# Altium footprint library Connector_PinSocket_2.54mm.PcbLib: 278 footprints (part 5 of 18)
Each footprint in its own frame and in the unit in brackets; x right, y up, seen from the top. Pads: shape width x height; smd on the part's side, far side on the other; paste and mask are expansions set on the pad; w line width, h text height; cw(c..) or ccw(c..) is an arc to the next point about the centre after c.
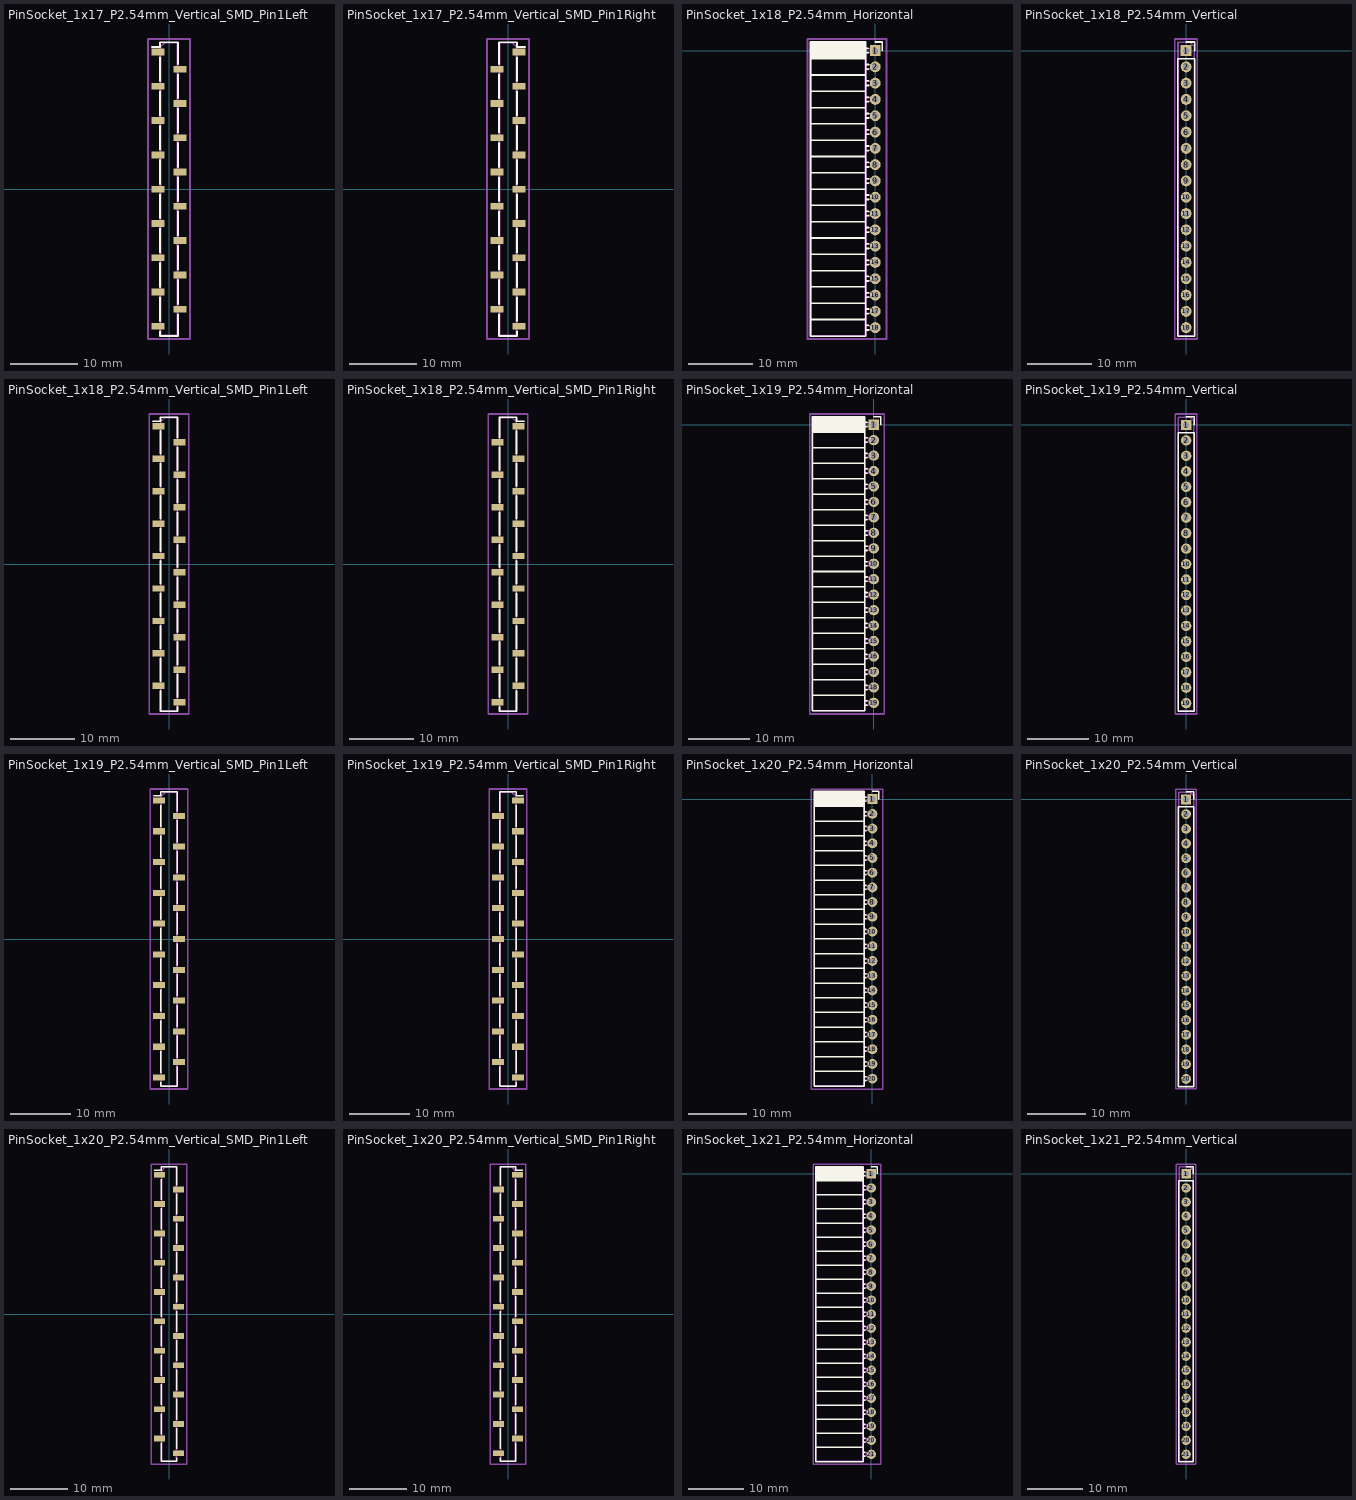
[diagram p4: the footprints below, top view; thin cyan lines are the x and y axes]

## PinSocket_1x17_P2.54mm_Vertical_SMD_Pin1Left [mm]
pads (17):
  rect 1.9x1 smd: 1(-1.65,20.32) 2(1.65,17.78) 3(-1.65,15.24) 4(1.65,12.7) 5(-1.65,10.16) 6(1.65,7.62) 7(-1.65,5.08) 8(1.65,2.54) 9(-1.65,0) 10(1.65,-2.54) 11(-1.65,-5.08) 12(1.65,-7.62) 13(-1.65,-10.16) 14(1.65,-12.7) 15(-1.65,-15.24) 16(1.65,-17.78) 17(-1.65,-20.32)
F.SilkS:
  lines w0.254: -2.54,21.08 -1.33,21.08 -1.33,21.75 1.33,21.75 1.33,18.54 ; -1.33,-21.08 -1.33,-21.75 1.33,-21.75 1.33,-18.54 ; -1.33,-19.56 -1.33,-16 ; -1.33,-14.48 -1.33,-10.92 ; -1.33,-9.4 -1.33,-5.84 ; -1.33,-4.32 -1.33,-0.76 ; -1.33,0.76 -1.33,4.32 ; -1.33,5.84 -1.33,9.4 ; -1.33,10.92 -1.33,14.48 ; -1.33,16 -1.33,19.56 ; 1.33,-17.02 1.33,-13.46 ; 1.33,-11.94 1.33,-8.38 ; 1.33,-6.86 1.33,-3.3 ; 1.33,-1.78 1.33,1.78 ; 1.33,3.3 1.33,6.86 ; 1.33,8.38 1.33,11.94 ; 1.33,13.46 1.33,17.02
Top Assembly:
  lines w0.254: -1.27,-20.62 -2.27,-20.62 -2.27,-20.02 -1.27,-20.02 ; -1.27,-15.54 -2.27,-15.54 -2.27,-14.94 -1.27,-14.94 ; -1.27,-10.46 -2.27,-10.46 -2.27,-9.86 -1.27,-9.86 ; -1.27,-5.38 -2.27,-5.38 -2.27,-4.78 -1.27,-4.78 ; -1.27,-0.3 -2.27,-0.3 -2.27,0.3 -1.27,0.3 ; -1.27,4.78 -2.27,4.78 -2.27,5.38 -1.27,5.38 ; -1.27,9.86 -2.27,9.86 -2.27,10.46 -1.27,10.46 ; -1.27,14.94 -2.27,14.94 -2.27,15.54 -1.27,15.54 ; -1.27,20.02 -2.27,20.02 -2.27,20.62 -1.27,20.62 ; 1.27,-18.08 2.27,-18.08 2.27,-17.48 1.27,-17.48 ; 1.27,-13 2.27,-13 2.27,-12.4 1.27,-12.4 ; 1.27,-7.92 2.27,-7.92 2.27,-7.32 1.27,-7.32 ; 1.27,-2.84 2.27,-2.84 2.27,-2.24 1.27,-2.24 ; 1.27,2.24 2.27,2.24 2.27,2.84 1.27,2.84 ; 1.27,7.32 2.27,7.32 2.27,7.92 1.27,7.92 ; 1.27,12.4 2.27,12.4 2.27,13 1.27,13 ; 1.27,17.48 2.27,17.48 2.27,18.08 1.27,18.08 ; -1.27,-21.69 1.27,-21.69 1.27,21.69 -0.635,21.69 -1.27,21.055 -1.27,-21.69
  text "'.Designator'" at 0.84,-4.047 h1
Top Courtyard:
  lines w0.254: -3.1,-22.2 3.1,-22.2 3.1,22.25 -3.1,22.25 -3.1,-22.2
Top Designator:
  text ".Designator" at -7.618,-0.483 h1.52

## PinSocket_1x17_P2.54mm_Vertical_SMD_Pin1Right [mm]
pads (17):
  rect 1.9x1 smd: 1(1.65,20.32) 2(-1.65,17.78) 3(1.65,15.24) 4(-1.65,12.7) 5(1.65,10.16) 6(-1.65,7.62) 7(1.65,5.08) 8(-1.65,2.54) 9(1.65,0) 10(-1.65,-2.54) 11(1.65,-5.08) 12(-1.65,-7.62) 13(1.65,-10.16) 14(-1.65,-12.7) 15(1.65,-15.24) 16(-1.65,-17.78) 17(1.65,-20.32)
F.SilkS:
  lines w0.254: -1.33,-18.54 -1.33,-21.75 1.33,-21.75 1.33,-21.08 ; -1.33,-17.02 -1.33,-13.46 ; -1.33,-11.94 -1.33,-8.38 ; -1.33,-6.86 -1.33,-3.3 ; -1.33,-1.78 -1.33,1.78 ; -1.33,3.3 -1.33,6.86 ; -1.33,8.38 -1.33,11.94 ; -1.33,13.46 -1.33,17.02 ; -1.33,18.54 -1.33,21.75 1.33,21.75 1.33,21.08 2.54,21.08 ; 1.33,-19.56 1.33,-16 ; 1.33,-14.48 1.33,-10.92 ; 1.33,-9.4 1.33,-5.84 ; 1.33,-4.32 1.33,-0.76 ; 1.33,0.76 1.33,4.32 ; 1.33,5.84 1.33,9.4 ; 1.33,10.92 1.33,14.48 ; 1.33,16 1.33,19.56
Top Assembly:
  lines w0.254: -1.27,-18.08 -2.27,-18.08 -2.27,-17.48 -1.27,-17.48 ; -1.27,-13 -2.27,-13 -2.27,-12.4 -1.27,-12.4 ; -1.27,-7.92 -2.27,-7.92 -2.27,-7.32 -1.27,-7.32 ; -1.27,-2.84 -2.27,-2.84 -2.27,-2.24 -1.27,-2.24 ; -1.27,2.24 -2.27,2.24 -2.27,2.84 -1.27,2.84 ; -1.27,7.32 -2.27,7.32 -2.27,7.92 -1.27,7.92 ; -1.27,12.4 -2.27,12.4 -2.27,13 -1.27,13 ; -1.27,17.48 -2.27,17.48 -2.27,18.08 -1.27,18.08 ; 1.27,-20.62 2.27,-20.62 2.27,-20.02 1.27,-20.02 ; 1.27,-15.54 2.27,-15.54 2.27,-14.94 1.27,-14.94 ; 1.27,-10.46 2.27,-10.46 2.27,-9.86 1.27,-9.86 ; 1.27,-5.38 2.27,-5.38 2.27,-4.78 1.27,-4.78 ; 1.27,-0.3 2.27,-0.3 2.27,0.3 1.27,0.3 ; 1.27,4.78 2.27,4.78 2.27,5.38 1.27,5.38 ; 1.27,9.86 2.27,9.86 2.27,10.46 1.27,10.46 ; 1.27,14.94 2.27,14.94 2.27,15.54 1.27,15.54 ; 1.27,20.02 2.27,20.02 2.27,20.62 1.27,20.62 ; -1.27,-21.69 1.27,-21.69 1.27,21.055 0.635,21.69 -1.27,21.69 -1.27,-21.69
  text "'.Designator'" at 0.84,-4.047 h1
Top Courtyard:
  lines w0.254: -3.1,-22.2 3.1,-22.2 3.1,22.25 -3.1,22.25 -3.1,-22.2
Top Designator:
  text ".Designator" at -7.618,-0.483 h1.52

## PinSocket_1x18_P2.54mm_Horizontal [mm]
pads (18):
  rect 1.7x1.7 hole 1: 1(0,0)
  round 1.7 hole 1: 2(0,-2.54) 3(0,-5.08) 4(0,-7.62) 5(0,-10.16) 6(0,-12.7) 7(0,-15.24) 8(0,-17.78) 9(0,-20.32) 10(0,-22.86) 11(0,-25.4) 12(0,-27.94) 13(0,-30.48) 14(0,-33.02) 15(0,-35.56) 16(0,-38.1) 17(0,-40.64) 18(0,-43.18)
F.SilkS:
  lines w0.254: -10.09,-41.91 -1.46,-41.91 ; -10.09,-39.37 -1.46,-39.37 ; -10.09,-36.83 -1.46,-36.83 ; -10.09,-34.29 -1.46,-34.29 ; -10.09,-31.75 -1.46,-31.75 ; -10.09,-29.21 -1.46,-29.21 ; -10.09,-26.67 -1.46,-26.67 ; -10.09,-24.13 -1.46,-24.13 ; -10.09,-21.59 -1.46,-21.59 ; -10.09,-19.05 -1.46,-19.05 ; -10.09,-16.51 -1.46,-16.51 ; -10.09,-13.97 -1.46,-13.97 ; -10.09,-11.43 -1.46,-11.43 ; -10.09,-8.89 -1.46,-8.89 ; -10.09,-6.35 -1.46,-6.35 ; -10.09,-3.81 -1.46,-3.81 ; -10.09,-1.27 -1.46,-1.27 ; -10.09,-1.152 -1.46,-1.152 ; -10.09,-1.034 -1.46,-1.034 ; -10.09,-0.916 -1.46,-0.916 ; -10.09,-0.798 -1.46,-0.798 ; -10.09,-0.68 -1.46,-0.68 ; -10.09,-0.561 -1.46,-0.561 ; -10.09,-0.443 -1.46,-0.443 ; -10.09,-0.325 -1.46,-0.325 ; -10.09,-0.207 -1.46,-0.207 ; -10.09,-0.089 -1.46,-0.089 ; -10.09,0.029 -1.46,0.029 ; -10.09,0.147 -1.46,0.147 ; -10.09,0.265 -1.46,0.265 ; -10.09,0.383 -1.46,0.383 ; -10.09,0.501 -1.46,0.501 ; -10.09,0.62 -1.46,0.62 ; -10.09,0.738 -1.46,0.738 ; -10.09,0.856 -1.46,0.856 ; -10.09,0.974 -1.46,0.974 ; -10.09,1.092 -1.46,1.092 ; -10.09,1.21 -1.46,1.21 ; -1.46,-43.54 -1.05,-43.54 ; -1.46,-42.82 -1.05,-42.82 ; -1.46,-41 -1.05,-41 ; -1.46,-40.28 -1.05,-40.28 ; -1.46,-38.46 -1.05,-38.46 ; -1.46,-37.74 -1.05,-37.74 ; -1.46,-35.92 -1.05,-35.92 ; -1.46,-35.2 -1.05,-35.2 ; -1.46,-33.38 -1.05,-33.38 ; -1.46,-32.66 -1.05,-32.66 ; -1.46,-30.84 -1.05,-30.84 ; -1.46,-30.12 -1.05,-30.12 ; -1.46,-28.3 -1.05,-28.3 ; -1.46,-27.58 -1.05,-27.58 ; -1.46,-25.76 -1.05,-25.76 ; -1.46,-25.04 -1.05,-25.04 ; -1.46,-23.22 -1.05,-23.22 ; -1.46,-22.5 -1.05,-22.5 ; -1.46,-20.68 -1.05,-20.68 ; -1.46,-19.96 -1.05,-19.96 ; -1.46,-18.14 -1.05,-18.14 ; -1.46,-17.42 -1.05,-17.42 ; -1.46,-15.6 -1.05,-15.6 ; -1.46,-14.88 -1.05,-14.88 ; -1.46,-13.06 -1.05,-13.06 ; -1.46,-12.34 -1.05,-12.34 ; -1.46,-10.52 -1.05,-10.52 ; -1.46,-9.8 -1.05,-9.8 ; -1.46,-7.98 -1.05,-7.98 ; -1.46,-7.26 -1.05,-7.26 ; -1.46,-5.44 -1.05,-5.44 ; -1.46,-4.72 -1.05,-4.72 ; -1.46,-2.9 -1.05,-2.9 ; -1.46,-2.18 -1.05,-2.18 ; -1.46,-0.36 -1.11,-0.36 ; -1.46,0.36 -1.11,0.36 ; 0,1.33 1.11,1.33 1.11,0 ; -10.09,-44.51 -1.46,-44.51 -1.46,1.33 -10.09,1.33 -10.09,-44.51
Top Assembly:
  lines w0.254: -1.52,-43.48 0,-43.48 0,-42.88 -1.52,-42.88 ; -1.52,-40.94 0,-40.94 0,-40.34 -1.52,-40.34 ; -1.52,-38.4 0,-38.4 0,-37.8 -1.52,-37.8 ; -1.52,-35.86 0,-35.86 0,-35.26 -1.52,-35.26 ; -1.52,-33.32 0,-33.32 0,-32.72 -1.52,-32.72 ; -1.52,-30.78 0,-30.78 0,-30.18 -1.52,-30.18 ; -1.52,-28.24 0,-28.24 0,-27.64 -1.52,-27.64 ; -1.52,-25.7 0,-25.7 0,-25.1 -1.52,-25.1 ; -1.52,-23.16 0,-23.16 0,-22.56 -1.52,-22.56 ; -1.52,-20.62 0,-20.62 0,-20.02 -1.52,-20.02 ; -1.52,-18.08 0,-18.08 0,-17.48 -1.52,-17.48 ; -1.52,-15.54 0,-15.54 0,-14.94 -1.52,-14.94 ; -1.52,-13 0,-13 0,-12.4 -1.52,-12.4 ; -1.52,-10.46 0,-10.46 0,-9.86 -1.52,-9.86 ; -1.52,-7.92 0,-7.92 0,-7.32 -1.52,-7.32 ; -1.52,-5.38 0,-5.38 0,-4.78 -1.52,-4.78 ; -1.52,-2.84 0,-2.84 0,-2.24 -1.52,-2.24 ; -1.52,-0.3 0,-0.3 0,0.3 -1.52,0.3 ; -1.52,0.3 -1.52,-44.45 -10.03,-44.45 -10.03,1.27 -2.49,1.27 -1.52,0.3
  text "'.Designator'" at -4.935,-25.637 h1
Top Courtyard:
  lines w0.254: -10.55,-44.95 1.75,-44.95 1.75,1.8 -10.55,1.8 -10.55,-44.95
Top Designator:
  text ".Designator" at -12.018,-22.083 h1.52

## PinSocket_1x18_P2.54mm_Vertical [mm]
pads (18):
  rect 1.7x1.7 hole 1: 1(0,0)
  round 1.7 hole 1: 2(0,-2.54) 3(0,-5.08) 4(0,-7.62) 5(0,-10.16) 6(0,-12.7) 7(0,-15.24) 8(0,-17.78) 9(0,-20.32) 10(0,-22.86) 11(0,-25.4) 12(0,-27.94) 13(0,-30.48) 14(0,-33.02) 15(0,-35.56) 16(0,-38.1) 17(0,-40.64) 18(0,-43.18)
F.SilkS:
  lines w0.254: 0,1.33 1.33,1.33 1.33,0 ; -1.33,-44.51 1.33,-44.51 1.33,-1.27 -1.33,-1.27 -1.33,-44.51
Top Assembly:
  lines w0.254: -1.27,-44.45 1.27,-44.45 1.27,0.635 0.635,1.27 -1.27,1.27 -1.27,-44.45
  text "'.Designator'" at 0.84,-25.637 h1
Top Courtyard:
  lines w0.254: -1.8,-44.95 1.75,-44.95 1.75,1.8 -1.8,1.8 -1.8,-44.95
Top Designator:
  text ".Designator" at -7.643,-22.083 h1.52

## PinSocket_1x18_P2.54mm_Vertical_SMD_Pin1Left [mm]
pads (18):
  rect 1.9x1 smd: 1(-1.65,21.59) 2(1.65,19.05) 3(-1.65,16.51) 4(1.65,13.97) 5(-1.65,11.43) 6(1.65,8.89) 7(-1.65,6.35) 8(1.65,3.81) 9(-1.65,1.27) 10(1.65,-1.27) 11(-1.65,-3.81) 12(1.65,-6.35) 13(-1.65,-8.89) 14(1.65,-11.43) 15(-1.65,-13.97) 16(1.65,-16.51) 17(-1.65,-19.05) 18(1.65,-21.59)
F.SilkS:
  lines w0.254: -2.54,22.35 -1.33,22.35 -1.33,23.02 1.33,23.02 1.33,19.81 ; -1.33,-19.81 -1.33,-23.02 1.33,-23.02 1.33,-22.35 ; -1.33,-18.29 -1.33,-14.73 ; -1.33,-13.21 -1.33,-9.65 ; -1.33,-8.13 -1.33,-4.57 ; -1.33,-3.05 -1.33,0.51 ; -1.33,2.03 -1.33,5.59 ; -1.33,7.11 -1.33,10.67 ; -1.33,12.19 -1.33,15.75 ; -1.33,17.27 -1.33,20.83 ; 1.33,-20.83 1.33,-17.27 ; 1.33,-15.75 1.33,-12.19 ; 1.33,-10.67 1.33,-7.11 ; 1.33,-5.59 1.33,-2.03 ; 1.33,-0.51 1.33,3.05 ; 1.33,4.57 1.33,8.13 ; 1.33,9.65 1.33,13.21 ; 1.33,14.73 1.33,18.29
Top Assembly:
  lines w0.254: -1.27,-19.35 -2.27,-19.35 -2.27,-18.75 -1.27,-18.75 ; -1.27,-14.27 -2.27,-14.27 -2.27,-13.67 -1.27,-13.67 ; -1.27,-9.19 -2.27,-9.19 -2.27,-8.59 -1.27,-8.59 ; -1.27,-4.11 -2.27,-4.11 -2.27,-3.51 -1.27,-3.51 ; -1.27,0.97 -2.27,0.97 -2.27,1.57 -1.27,1.57 ; -1.27,6.05 -2.27,6.05 -2.27,6.65 -1.27,6.65 ; -1.27,11.13 -2.27,11.13 -2.27,11.73 -1.27,11.73 ; -1.27,16.21 -2.27,16.21 -2.27,16.81 -1.27,16.81 ; -1.27,21.29 -2.27,21.29 -2.27,21.89 -1.27,21.89 ; 1.27,-21.89 2.27,-21.89 2.27,-21.29 1.27,-21.29 ; 1.27,-16.81 2.27,-16.81 2.27,-16.21 1.27,-16.21 ; 1.27,-11.73 2.27,-11.73 2.27,-11.13 1.27,-11.13 ; 1.27,-6.65 2.27,-6.65 2.27,-6.05 1.27,-6.05 ; 1.27,-1.57 2.27,-1.57 2.27,-0.97 1.27,-0.97 ; 1.27,3.51 2.27,3.51 2.27,4.11 1.27,4.11 ; 1.27,8.59 2.27,8.59 2.27,9.19 1.27,9.19 ; 1.27,13.67 2.27,13.67 2.27,14.27 1.27,14.27 ; 1.27,18.75 2.27,18.75 2.27,19.35 1.27,19.35 ; -1.27,-22.96 1.27,-22.96 1.27,22.96 -0.635,22.96 -1.27,22.325 -1.27,-22.96
  text "'.Designator'" at 0.84,-4.047 h1
Top Courtyard:
  lines w0.254: -3.1,-23.45 3.1,-23.45 3.1,23.5 -3.1,23.5 -3.1,-23.45
Top Designator:
  text ".Designator" at -7.618,-0.483 h1.52

## PinSocket_1x18_P2.54mm_Vertical_SMD_Pin1Right [mm]
pads (18):
  rect 1.9x1 smd: 1(1.65,21.59) 2(-1.65,19.05) 3(1.65,16.51) 4(-1.65,13.97) 5(1.65,11.43) 6(-1.65,8.89) 7(1.65,6.35) 8(-1.65,3.81) 9(1.65,1.27) 10(-1.65,-1.27) 11(1.65,-3.81) 12(-1.65,-6.35) 13(1.65,-8.89) 14(-1.65,-11.43) 15(1.65,-13.97) 16(-1.65,-16.51) 17(1.65,-19.05) 18(-1.65,-21.59)
F.SilkS:
  lines w0.254: -1.33,-22.35 -1.33,-23.02 1.33,-23.02 1.33,-19.81 ; -1.33,-20.83 -1.33,-17.27 ; -1.33,-15.75 -1.33,-12.19 ; -1.33,-10.67 -1.33,-7.11 ; -1.33,-5.59 -1.33,-2.03 ; -1.33,-0.51 -1.33,3.05 ; -1.33,4.57 -1.33,8.13 ; -1.33,9.65 -1.33,13.21 ; -1.33,14.73 -1.33,18.29 ; -1.33,19.81 -1.33,23.02 1.33,23.02 1.33,22.35 2.54,22.35 ; 1.33,-18.29 1.33,-14.73 ; 1.33,-13.21 1.33,-9.65 ; 1.33,-8.13 1.33,-4.57 ; 1.33,-3.05 1.33,0.51 ; 1.33,2.03 1.33,5.59 ; 1.33,7.11 1.33,10.67 ; 1.33,12.19 1.33,15.75 ; 1.33,17.27 1.33,20.83
Top Assembly:
  lines w0.254: -1.27,-21.89 -2.27,-21.89 -2.27,-21.29 -1.27,-21.29 ; -1.27,-16.81 -2.27,-16.81 -2.27,-16.21 -1.27,-16.21 ; -1.27,-11.73 -2.27,-11.73 -2.27,-11.13 -1.27,-11.13 ; -1.27,-6.65 -2.27,-6.65 -2.27,-6.05 -1.27,-6.05 ; -1.27,-1.57 -2.27,-1.57 -2.27,-0.97 -1.27,-0.97 ; -1.27,3.51 -2.27,3.51 -2.27,4.11 -1.27,4.11 ; -1.27,8.59 -2.27,8.59 -2.27,9.19 -1.27,9.19 ; -1.27,13.67 -2.27,13.67 -2.27,14.27 -1.27,14.27 ; -1.27,18.75 -2.27,18.75 -2.27,19.35 -1.27,19.35 ; 1.27,-19.35 2.27,-19.35 2.27,-18.75 1.27,-18.75 ; 1.27,-14.27 2.27,-14.27 2.27,-13.67 1.27,-13.67 ; 1.27,-9.19 2.27,-9.19 2.27,-8.59 1.27,-8.59 ; 1.27,-4.11 2.27,-4.11 2.27,-3.51 1.27,-3.51 ; 1.27,0.97 2.27,0.97 2.27,1.57 1.27,1.57 ; 1.27,6.05 2.27,6.05 2.27,6.65 1.27,6.65 ; 1.27,11.13 2.27,11.13 2.27,11.73 1.27,11.73 ; 1.27,16.21 2.27,16.21 2.27,16.81 1.27,16.81 ; 1.27,21.29 2.27,21.29 2.27,21.89 1.27,21.89 ; -1.27,-22.96 1.27,-22.96 1.27,22.325 0.635,22.96 -1.27,22.96 -1.27,-22.96
  text "'.Designator'" at 0.84,-4.047 h1
Top Courtyard:
  lines w0.254: -3.1,-23.45 3.1,-23.45 3.1,23.5 -3.1,23.5 -3.1,-23.45
Top Designator:
  text ".Designator" at -7.618,-0.483 h1.52

## PinSocket_1x19_P2.54mm_Horizontal [mm]
pads (19):
  rect 1.7x1.7 hole 1: 1(0,0)
  round 1.7 hole 1: 2(0,-2.54) 3(0,-5.08) 4(0,-7.62) 5(0,-10.16) 6(0,-12.7) 7(0,-15.24) 8(0,-17.78) 9(0,-20.32) 10(0,-22.86) 11(0,-25.4) 12(0,-27.94) 13(0,-30.48) 14(0,-33.02) 15(0,-35.56) 16(0,-38.1) 17(0,-40.64) 18(0,-43.18) 19(0,-45.72)
F.SilkS:
  lines w0.254: -10.09,-44.45 -1.46,-44.45 ; -10.09,-41.91 -1.46,-41.91 ; -10.09,-39.37 -1.46,-39.37 ; -10.09,-36.83 -1.46,-36.83 ; -10.09,-34.29 -1.46,-34.29 ; -10.09,-31.75 -1.46,-31.75 ; -10.09,-29.21 -1.46,-29.21 ; -10.09,-26.67 -1.46,-26.67 ; -10.09,-24.13 -1.46,-24.13 ; -10.09,-21.59 -1.46,-21.59 ; -10.09,-19.05 -1.46,-19.05 ; -10.09,-16.51 -1.46,-16.51 ; -10.09,-13.97 -1.46,-13.97 ; -10.09,-11.43 -1.46,-11.43 ; -10.09,-8.89 -1.46,-8.89 ; -10.09,-6.35 -1.46,-6.35 ; -10.09,-3.81 -1.46,-3.81 ; -10.09,-1.27 -1.46,-1.27 ; -10.09,-1.152 -1.46,-1.152 ; -10.09,-1.034 -1.46,-1.034 ; -10.09,-0.916 -1.46,-0.916 ; -10.09,-0.798 -1.46,-0.798 ; -10.09,-0.68 -1.46,-0.68 ; -10.09,-0.561 -1.46,-0.561 ; -10.09,-0.443 -1.46,-0.443 ; -10.09,-0.325 -1.46,-0.325 ; -10.09,-0.207 -1.46,-0.207 ; -10.09,-0.089 -1.46,-0.089 ; -10.09,0.029 -1.46,0.029 ; -10.09,0.147 -1.46,0.147 ; -10.09,0.265 -1.46,0.265 ; -10.09,0.383 -1.46,0.383 ; -10.09,0.501 -1.46,0.501 ; -10.09,0.62 -1.46,0.62 ; -10.09,0.738 -1.46,0.738 ; -10.09,0.856 -1.46,0.856 ; -10.09,0.974 -1.46,0.974 ; -10.09,1.092 -1.46,1.092 ; -10.09,1.21 -1.46,1.21 ; -1.46,-46.08 -1.05,-46.08 ; -1.46,-45.36 -1.05,-45.36 ; -1.46,-43.54 -1.05,-43.54 ; -1.46,-42.82 -1.05,-42.82 ; -1.46,-41 -1.05,-41 ; -1.46,-40.28 -1.05,-40.28 ; -1.46,-38.46 -1.05,-38.46 ; -1.46,-37.74 -1.05,-37.74 ; -1.46,-35.92 -1.05,-35.92 ; -1.46,-35.2 -1.05,-35.2 ; -1.46,-33.38 -1.05,-33.38 ; -1.46,-32.66 -1.05,-32.66 ; -1.46,-30.84 -1.05,-30.84 ; -1.46,-30.12 -1.05,-30.12 ; -1.46,-28.3 -1.05,-28.3 ; -1.46,-27.58 -1.05,-27.58 ; -1.46,-25.76 -1.05,-25.76 ; -1.46,-25.04 -1.05,-25.04 ; -1.46,-23.22 -1.05,-23.22 ; -1.46,-22.5 -1.05,-22.5 ; -1.46,-20.68 -1.05,-20.68 ; -1.46,-19.96 -1.05,-19.96 ; -1.46,-18.14 -1.05,-18.14 ; -1.46,-17.42 -1.05,-17.42 ; -1.46,-15.6 -1.05,-15.6 ; -1.46,-14.88 -1.05,-14.88 ; -1.46,-13.06 -1.05,-13.06 ; -1.46,-12.34 -1.05,-12.34 ; -1.46,-10.52 -1.05,-10.52 ; -1.46,-9.8 -1.05,-9.8 ; -1.46,-7.98 -1.05,-7.98 ; -1.46,-7.26 -1.05,-7.26 ; -1.46,-5.44 -1.05,-5.44 ; -1.46,-4.72 -1.05,-4.72 ; -1.46,-2.9 -1.05,-2.9 ; -1.46,-2.18 -1.05,-2.18 ; -1.46,-0.36 -1.11,-0.36 ; -1.46,0.36 -1.11,0.36 ; 0,1.33 1.11,1.33 1.11,0 ; -10.09,-47.05 -1.46,-47.05 -1.46,1.33 -10.09,1.33 -10.09,-47.05
Top Assembly:
  lines w0.254: -1.52,-46.02 0,-46.02 0,-45.42 -1.52,-45.42 ; -1.52,-43.48 0,-43.48 0,-42.88 -1.52,-42.88 ; -1.52,-40.94 0,-40.94 0,-40.34 -1.52,-40.34 ; -1.52,-38.4 0,-38.4 0,-37.8 -1.52,-37.8 ; -1.52,-35.86 0,-35.86 0,-35.26 -1.52,-35.26 ; -1.52,-33.32 0,-33.32 0,-32.72 -1.52,-32.72 ; -1.52,-30.78 0,-30.78 0,-30.18 -1.52,-30.18 ; -1.52,-28.24 0,-28.24 0,-27.64 -1.52,-27.64 ; -1.52,-25.7 0,-25.7 0,-25.1 -1.52,-25.1 ; -1.52,-23.16 0,-23.16 0,-22.56 -1.52,-22.56 ; -1.52,-20.62 0,-20.62 0,-20.02 -1.52,-20.02 ; -1.52,-18.08 0,-18.08 0,-17.48 -1.52,-17.48 ; -1.52,-15.54 0,-15.54 0,-14.94 -1.52,-14.94 ; -1.52,-13 0,-13 0,-12.4 -1.52,-12.4 ; -1.52,-10.46 0,-10.46 0,-9.86 -1.52,-9.86 ; -1.52,-7.92 0,-7.92 0,-7.32 -1.52,-7.32 ; -1.52,-5.38 0,-5.38 0,-4.78 -1.52,-4.78 ; -1.52,-2.84 0,-2.84 0,-2.24 -1.52,-2.24 ; -1.52,-0.3 0,-0.3 0,0.3 -1.52,0.3 ; -1.52,0.3 -1.52,-46.99 -10.03,-46.99 -10.03,1.27 -2.49,1.27 -1.52,0.3
  text "'.Designator'" at -4.935,-26.907 h1
Top Courtyard:
  lines w0.254: -10.55,-47.55 1.75,-47.55 1.75,1.75 -10.55,1.75 -10.55,-47.55
Top Designator:
  text ".Designator" at -12.018,-23.408 h1.52

## PinSocket_1x19_P2.54mm_Vertical [mm]
pads (19):
  rect 1.7x1.7 hole 1: 1(0,0)
  round 1.7 hole 1: 2(0,-2.54) 3(0,-5.08) 4(0,-7.62) 5(0,-10.16) 6(0,-12.7) 7(0,-15.24) 8(0,-17.78) 9(0,-20.32) 10(0,-22.86) 11(0,-25.4) 12(0,-27.94) 13(0,-30.48) 14(0,-33.02) 15(0,-35.56) 16(0,-38.1) 17(0,-40.64) 18(0,-43.18) 19(0,-45.72)
F.SilkS:
  lines w0.254: 0,1.33 1.33,1.33 1.33,0 ; -1.33,-47.05 1.33,-47.05 1.33,-1.27 -1.33,-1.27 -1.33,-47.05
Top Assembly:
  lines w0.254: -1.27,-46.99 1.27,-46.99 1.27,0.635 0.635,1.27 -1.27,1.27 -1.27,-46.99
  text "'.Designator'" at 0.84,-26.907 h1
Top Courtyard:
  lines w0.254: -1.8,-47.5 1.75,-47.5 1.75,1.8 -1.8,1.8 -1.8,-47.5
Top Designator:
  text ".Designator" at -7.643,-23.358 h1.52

## PinSocket_1x19_P2.54mm_Vertical_SMD_Pin1Left [mm]
pads (19):
  rect 1.9x1 smd: 1(-1.65,22.86) 2(1.65,20.32) 3(-1.65,17.78) 4(1.65,15.24) 5(-1.65,12.7) 6(1.65,10.16) 7(-1.65,7.62) 8(1.65,5.08) 9(-1.65,2.54) 10(1.65,0) 11(-1.65,-2.54) 12(1.65,-5.08) 13(-1.65,-7.62) 14(1.65,-10.16) 15(-1.65,-12.7) 16(1.65,-15.24) 17(-1.65,-17.78) 18(1.65,-20.32) 19(-1.65,-22.86)
F.SilkS:
  lines w0.254: -2.54,23.62 -1.33,23.62 -1.33,24.29 1.33,24.29 1.33,21.08 ; -1.33,-23.62 -1.33,-24.29 1.33,-24.29 1.33,-21.08 ; -1.33,-22.1 -1.33,-18.54 ; -1.33,-17.02 -1.33,-13.46 ; -1.33,-11.94 -1.33,-8.38 ; -1.33,-6.86 -1.33,-3.3 ; -1.33,-1.78 -1.33,1.78 ; -1.33,3.3 -1.33,6.86 ; -1.33,8.38 -1.33,11.94 ; -1.33,13.46 -1.33,17.02 ; -1.33,18.54 -1.33,22.1 ; 1.33,-19.56 1.33,-16 ; 1.33,-14.48 1.33,-10.92 ; 1.33,-9.4 1.33,-5.84 ; 1.33,-4.32 1.33,-0.76 ; 1.33,0.76 1.33,4.32 ; 1.33,5.84 1.33,9.4 ; 1.33,10.92 1.33,14.48 ; 1.33,16 1.33,19.56
Top Assembly:
  lines w0.254: -1.27,-23.16 -2.27,-23.16 -2.27,-22.56 -1.27,-22.56 ; -1.27,-18.08 -2.27,-18.08 -2.27,-17.48 -1.27,-17.48 ; -1.27,-13 -2.27,-13 -2.27,-12.4 -1.27,-12.4 ; -1.27,-7.92 -2.27,-7.92 -2.27,-7.32 -1.27,-7.32 ; -1.27,-2.84 -2.27,-2.84 -2.27,-2.24 -1.27,-2.24 ; -1.27,2.24 -2.27,2.24 -2.27,2.84 -1.27,2.84 ; -1.27,7.32 -2.27,7.32 -2.27,7.92 -1.27,7.92 ; -1.27,12.4 -2.27,12.4 -2.27,13 -1.27,13 ; -1.27,17.48 -2.27,17.48 -2.27,18.08 -1.27,18.08 ; -1.27,22.56 -2.27,22.56 -2.27,23.16 -1.27,23.16 ; 1.27,-20.62 2.27,-20.62 2.27,-20.02 1.27,-20.02 ; 1.27,-15.54 2.27,-15.54 2.27,-14.94 1.27,-14.94 ; 1.27,-10.46 2.27,-10.46 2.27,-9.86 1.27,-9.86 ; 1.27,-5.38 2.27,-5.38 2.27,-4.78 1.27,-4.78 ; 1.27,-0.3 2.27,-0.3 2.27,0.3 1.27,0.3 ; 1.27,4.78 2.27,4.78 2.27,5.38 1.27,5.38 ; 1.27,9.86 2.27,9.86 2.27,10.46 1.27,10.46 ; 1.27,14.94 2.27,14.94 2.27,15.54 1.27,15.54 ; 1.27,20.02 2.27,20.02 2.27,20.62 1.27,20.62 ; -1.27,-24.23 1.27,-24.23 1.27,24.23 -0.635,24.23 -1.27,23.595 -1.27,-24.23
  text "'.Designator'" at 0.84,-4.047 h1
Top Courtyard:
  lines w0.254: -3.1,-24.75 3.1,-24.75 3.1,24.75 -3.1,24.75 -3.1,-24.75
Top Designator:
  text ".Designator" at -7.618,-0.508 h1.52

## PinSocket_1x19_P2.54mm_Vertical_SMD_Pin1Right [mm]
pads (19):
  rect 1.9x1 smd: 1(1.65,22.86) 2(-1.65,20.32) 3(1.65,17.78) 4(-1.65,15.24) 5(1.65,12.7) 6(-1.65,10.16) 7(1.65,7.62) 8(-1.65,5.08) 9(1.65,2.54) 10(-1.65,0) 11(1.65,-2.54) 12(-1.65,-5.08) 13(1.65,-7.62) 14(-1.65,-10.16) 15(1.65,-12.7) 16(-1.65,-15.24) 17(1.65,-17.78) 18(-1.65,-20.32) 19(1.65,-22.86)
F.SilkS:
  lines w0.254: -1.33,-21.08 -1.33,-24.29 1.33,-24.29 1.33,-23.62 ; -1.33,-19.56 -1.33,-16 ; -1.33,-14.48 -1.33,-10.92 ; -1.33,-9.4 -1.33,-5.84 ; -1.33,-4.32 -1.33,-0.76 ; -1.33,0.76 -1.33,4.32 ; -1.33,5.84 -1.33,9.4 ; -1.33,10.92 -1.33,14.48 ; -1.33,16 -1.33,19.56 ; -1.33,21.08 -1.33,24.29 1.33,24.29 1.33,23.62 2.54,23.62 ; 1.33,-22.1 1.33,-18.54 ; 1.33,-17.02 1.33,-13.46 ; 1.33,-11.94 1.33,-8.38 ; 1.33,-6.86 1.33,-3.3 ; 1.33,-1.78 1.33,1.78 ; 1.33,3.3 1.33,6.86 ; 1.33,8.38 1.33,11.94 ; 1.33,13.46 1.33,17.02 ; 1.33,18.54 1.33,22.1
Top Assembly:
  lines w0.254: -1.27,-20.62 -2.27,-20.62 -2.27,-20.02 -1.27,-20.02 ; -1.27,-15.54 -2.27,-15.54 -2.27,-14.94 -1.27,-14.94 ; -1.27,-10.46 -2.27,-10.46 -2.27,-9.86 -1.27,-9.86 ; -1.27,-5.38 -2.27,-5.38 -2.27,-4.78 -1.27,-4.78 ; -1.27,-0.3 -2.27,-0.3 -2.27,0.3 -1.27,0.3 ; -1.27,4.78 -2.27,4.78 -2.27,5.38 -1.27,5.38 ; -1.27,9.86 -2.27,9.86 -2.27,10.46 -1.27,10.46 ; -1.27,14.94 -2.27,14.94 -2.27,15.54 -1.27,15.54 ; -1.27,20.02 -2.27,20.02 -2.27,20.62 -1.27,20.62 ; 1.27,-23.16 2.27,-23.16 2.27,-22.56 1.27,-22.56 ; 1.27,-18.08 2.27,-18.08 2.27,-17.48 1.27,-17.48 ; 1.27,-13 2.27,-13 2.27,-12.4 1.27,-12.4 ; 1.27,-7.92 2.27,-7.92 2.27,-7.32 1.27,-7.32 ; 1.27,-2.84 2.27,-2.84 2.27,-2.24 1.27,-2.24 ; 1.27,2.24 2.27,2.24 2.27,2.84 1.27,2.84 ; 1.27,7.32 2.27,7.32 2.27,7.92 1.27,7.92 ; 1.27,12.4 2.27,12.4 2.27,13 1.27,13 ; 1.27,17.48 2.27,17.48 2.27,18.08 1.27,18.08 ; 1.27,22.56 2.27,22.56 2.27,23.16 1.27,23.16 ; -1.27,-24.23 1.27,-24.23 1.27,23.595 0.635,24.23 -1.27,24.23 -1.27,-24.23
  text "'.Designator'" at 0.84,-4.047 h1
Top Courtyard:
  lines w0.254: -3.1,-24.75 3.1,-24.75 3.1,24.75 -3.1,24.75 -3.1,-24.75
Top Designator:
  text ".Designator" at -7.618,-0.508 h1.52

## PinSocket_1x20_P2.54mm_Horizontal [mm]
pads (20):
  rect 1.7x1.7 hole 1: 1(0,0)
  round 1.7 hole 1: 2(0,-2.54) 3(0,-5.08) 4(0,-7.62) 5(0,-10.16) 6(0,-12.7) 7(0,-15.24) 8(0,-17.78) 9(0,-20.32) 10(0,-22.86) 11(0,-25.4) 12(0,-27.94) 13(0,-30.48) 14(0,-33.02) 15(0,-35.56) 16(0,-38.1) 17(0,-40.64) 18(0,-43.18) 19(0,-45.72) 20(0,-48.26)
F.SilkS:
  lines w0.254: -10.09,-46.99 -1.46,-46.99 ; -10.09,-44.45 -1.46,-44.45 ; -10.09,-41.91 -1.46,-41.91 ; -10.09,-39.37 -1.46,-39.37 ; -10.09,-36.83 -1.46,-36.83 ; -10.09,-34.29 -1.46,-34.29 ; -10.09,-31.75 -1.46,-31.75 ; -10.09,-29.21 -1.46,-29.21 ; -10.09,-26.67 -1.46,-26.67 ; -10.09,-24.13 -1.46,-24.13 ; -10.09,-21.59 -1.46,-21.59 ; -10.09,-19.05 -1.46,-19.05 ; -10.09,-16.51 -1.46,-16.51 ; -10.09,-13.97 -1.46,-13.97 ; -10.09,-11.43 -1.46,-11.43 ; -10.09,-8.89 -1.46,-8.89 ; -10.09,-6.35 -1.46,-6.35 ; -10.09,-3.81 -1.46,-3.81 ; -10.09,-1.27 -1.46,-1.27 ; -10.09,-1.152 -1.46,-1.152 ; -10.09,-1.034 -1.46,-1.034 ; -10.09,-0.916 -1.46,-0.916 ; -10.09,-0.798 -1.46,-0.798 ; -10.09,-0.68 -1.46,-0.68 ; -10.09,-0.561 -1.46,-0.561 ; -10.09,-0.443 -1.46,-0.443 ; -10.09,-0.325 -1.46,-0.325 ; -10.09,-0.207 -1.46,-0.207 ; -10.09,-0.089 -1.46,-0.089 ; -10.09,0.029 -1.46,0.029 ; -10.09,0.147 -1.46,0.147 ; -10.09,0.265 -1.46,0.265 ; -10.09,0.383 -1.46,0.383 ; -10.09,0.501 -1.46,0.501 ; -10.09,0.62 -1.46,0.62 ; -10.09,0.738 -1.46,0.738 ; -10.09,0.856 -1.46,0.856 ; -10.09,0.974 -1.46,0.974 ; -10.09,1.092 -1.46,1.092 ; -10.09,1.21 -1.46,1.21 ; -1.46,-48.62 -1.05,-48.62 ; -1.46,-47.9 -1.05,-47.9 ; -1.46,-46.08 -1.05,-46.08 ; -1.46,-45.36 -1.05,-45.36 ; -1.46,-43.54 -1.05,-43.54 ; -1.46,-42.82 -1.05,-42.82 ; -1.46,-41 -1.05,-41 ; -1.46,-40.28 -1.05,-40.28 ; -1.46,-38.46 -1.05,-38.46 ; -1.46,-37.74 -1.05,-37.74 ; -1.46,-35.92 -1.05,-35.92 ; -1.46,-35.2 -1.05,-35.2 ; -1.46,-33.38 -1.05,-33.38 ; -1.46,-32.66 -1.05,-32.66 ; -1.46,-30.84 -1.05,-30.84 ; -1.46,-30.12 -1.05,-30.12 ; -1.46,-28.3 -1.05,-28.3 ; -1.46,-27.58 -1.05,-27.58 ; -1.46,-25.76 -1.05,-25.76 ; -1.46,-25.04 -1.05,-25.04 ; -1.46,-23.22 -1.05,-23.22 ; -1.46,-22.5 -1.05,-22.5 ; -1.46,-20.68 -1.05,-20.68 ; -1.46,-19.96 -1.05,-19.96 ; -1.46,-18.14 -1.05,-18.14 ; -1.46,-17.42 -1.05,-17.42 ; -1.46,-15.6 -1.05,-15.6 ; -1.46,-14.88 -1.05,-14.88 ; -1.46,-13.06 -1.05,-13.06 ; -1.46,-12.34 -1.05,-12.34 ; -1.46,-10.52 -1.05,-10.52 ; -1.46,-9.8 -1.05,-9.8 ; -1.46,-7.98 -1.05,-7.98 ; -1.46,-7.26 -1.05,-7.26 ; -1.46,-5.44 -1.05,-5.44 ; -1.46,-4.72 -1.05,-4.72 ; -1.46,-2.9 -1.05,-2.9 ; -1.46,-2.18 -1.05,-2.18 ; -1.46,-0.36 -1.11,-0.36 ; -1.46,0.36 -1.11,0.36 ; 0,1.33 1.11,1.33 1.11,0 ; -10.09,-49.59 -1.46,-49.59 -1.46,1.33 -10.09,1.33 -10.09,-49.59
Top Assembly:
  lines w0.254: -1.52,-48.56 0,-48.56 0,-47.96 -1.52,-47.96 ; -1.52,-46.02 0,-46.02 0,-45.42 -1.52,-45.42 ; -1.52,-43.48 0,-43.48 0,-42.88 -1.52,-42.88 ; -1.52,-40.94 0,-40.94 0,-40.34 -1.52,-40.34 ; -1.52,-38.4 0,-38.4 0,-37.8 -1.52,-37.8 ; -1.52,-35.86 0,-35.86 0,-35.26 -1.52,-35.26 ; -1.52,-33.32 0,-33.32 0,-32.72 -1.52,-32.72 ; -1.52,-30.78 0,-30.78 0,-30.18 -1.52,-30.18 ; -1.52,-28.24 0,-28.24 0,-27.64 -1.52,-27.64 ; -1.52,-25.7 0,-25.7 0,-25.1 -1.52,-25.1 ; -1.52,-23.16 0,-23.16 0,-22.56 -1.52,-22.56 ; -1.52,-20.62 0,-20.62 0,-20.02 -1.52,-20.02 ; -1.52,-18.08 0,-18.08 0,-17.48 -1.52,-17.48 ; -1.52,-15.54 0,-15.54 0,-14.94 -1.52,-14.94 ; -1.52,-13 0,-13 0,-12.4 -1.52,-12.4 ; -1.52,-10.46 0,-10.46 0,-9.86 -1.52,-9.86 ; -1.52,-7.92 0,-7.92 0,-7.32 -1.52,-7.32 ; -1.52,-5.38 0,-5.38 0,-4.78 -1.52,-4.78 ; -1.52,-2.84 0,-2.84 0,-2.24 -1.52,-2.24 ; -1.52,-0.3 0,-0.3 0,0.3 -1.52,0.3 ; -1.52,0.3 -1.52,-49.53 -10.03,-49.53 -10.03,1.27 -2.49,1.27 -1.52,0.3
  text "'.Designator'" at -4.935,-28.177 h1
Top Courtyard:
  lines w0.254: -10.55,-50.05 1.75,-50.05 1.75,1.75 -10.55,1.75 -10.55,-50.05
Top Designator:
  text ".Designator" at -12.018,-24.658 h1.52

## PinSocket_1x20_P2.54mm_Vertical [mm]
pads (20):
  rect 1.7x1.7 hole 1: 1(0,0)
  round 1.7 hole 1: 2(0,-2.54) 3(0,-5.08) 4(0,-7.62) 5(0,-10.16) 6(0,-12.7) 7(0,-15.24) 8(0,-17.78) 9(0,-20.32) 10(0,-22.86) 11(0,-25.4) 12(0,-27.94) 13(0,-30.48) 14(0,-33.02) 15(0,-35.56) 16(0,-38.1) 17(0,-40.64) 18(0,-43.18) 19(0,-45.72) 20(0,-48.26)
F.SilkS:
  lines w0.254: 0,1.33 1.33,1.33 1.33,0 ; -1.33,-49.59 1.33,-49.59 1.33,-1.27 -1.33,-1.27 -1.33,-49.59
Top Assembly:
  lines w0.254: -1.27,-49.53 1.27,-49.53 1.27,0.635 0.635,1.27 -1.27,1.27 -1.27,-49.53
  text "'.Designator'" at 0.84,-28.177 h1
Top Courtyard:
  lines w0.254: -1.8,-50 1.75,-50 1.75,1.8 -1.8,1.8 -1.8,-50
Top Designator:
  text ".Designator" at -7.643,-24.608 h1.52

## PinSocket_1x20_P2.54mm_Vertical_SMD_Pin1Left [mm]
pads (20):
  rect 1.9x1 smd: 1(-1.65,24.13) 2(1.65,21.59) 3(-1.65,19.05) 4(1.65,16.51) 5(-1.65,13.97) 6(1.65,11.43) 7(-1.65,8.89) 8(1.65,6.35) 9(-1.65,3.81) 10(1.65,1.27) 11(-1.65,-1.27) 12(1.65,-3.81) 13(-1.65,-6.35) 14(1.65,-8.89) 15(-1.65,-11.43) 16(1.65,-13.97) 17(-1.65,-16.51) 18(1.65,-19.05) 19(-1.65,-21.59) 20(1.65,-24.13)
F.SilkS:
  lines w0.254: -2.54,24.89 -1.33,24.89 -1.33,25.56 1.33,25.56 1.33,22.35 ; -1.33,-22.35 -1.33,-25.56 1.33,-25.56 1.33,-24.89 ; -1.33,-20.83 -1.33,-17.27 ; -1.33,-15.75 -1.33,-12.19 ; -1.33,-10.67 -1.33,-7.11 ; -1.33,-5.59 -1.33,-2.03 ; -1.33,-0.51 -1.33,3.05 ; -1.33,4.57 -1.33,8.13 ; -1.33,9.65 -1.33,13.21 ; -1.33,14.73 -1.33,18.29 ; -1.33,19.81 -1.33,23.37 ; 1.33,-23.37 1.33,-19.81 ; 1.33,-18.29 1.33,-14.73 ; 1.33,-13.21 1.33,-9.65 ; 1.33,-8.13 1.33,-4.57 ; 1.33,-3.05 1.33,0.51 ; 1.33,2.03 1.33,5.59 ; 1.33,7.11 1.33,10.67 ; 1.33,12.19 1.33,15.75 ; 1.33,17.27 1.33,20.83
Top Assembly:
  lines w0.254: -1.27,-21.89 -2.27,-21.89 -2.27,-21.29 -1.27,-21.29 ; -1.27,-16.81 -2.27,-16.81 -2.27,-16.21 -1.27,-16.21 ; -1.27,-11.73 -2.27,-11.73 -2.27,-11.13 -1.27,-11.13 ; -1.27,-6.65 -2.27,-6.65 -2.27,-6.05 -1.27,-6.05 ; -1.27,-1.57 -2.27,-1.57 -2.27,-0.97 -1.27,-0.97 ; -1.27,3.51 -2.27,3.51 -2.27,4.11 -1.27,4.11 ; -1.27,8.59 -2.27,8.59 -2.27,9.19 -1.27,9.19 ; -1.27,13.67 -2.27,13.67 -2.27,14.27 -1.27,14.27 ; -1.27,18.75 -2.27,18.75 -2.27,19.35 -1.27,19.35 ; -1.27,23.83 -2.27,23.83 -2.27,24.43 -1.27,24.43 ; 1.27,-24.43 2.27,-24.43 2.27,-23.83 1.27,-23.83 ; 1.27,-19.35 2.27,-19.35 2.27,-18.75 1.27,-18.75 ; 1.27,-14.27 2.27,-14.27 2.27,-13.67 1.27,-13.67 ; 1.27,-9.19 2.27,-9.19 2.27,-8.59 1.27,-8.59 ; 1.27,-4.11 2.27,-4.11 2.27,-3.51 1.27,-3.51 ; 1.27,0.97 2.27,0.97 2.27,1.57 1.27,1.57 ; 1.27,6.05 2.27,6.05 2.27,6.65 1.27,6.65 ; 1.27,11.13 2.27,11.13 2.27,11.73 1.27,11.73 ; 1.27,16.21 2.27,16.21 2.27,16.81 1.27,16.81 ; 1.27,21.29 2.27,21.29 2.27,21.89 1.27,21.89 ; -1.27,-25.5 1.27,-25.5 1.27,25.5 -0.635,25.5 -1.27,24.865 -1.27,-25.5
  text "'.Designator'" at 0.84,-4.047 h1
Top Courtyard:
  lines w0.254: -3.1,-26 3.1,-26 3.1,26 -3.1,26 -3.1,-26
Top Designator:
  text ".Designator" at -7.618,-0.508 h1.52

## PinSocket_1x20_P2.54mm_Vertical_SMD_Pin1Right [mm]
pads (20):
  rect 1.9x1 smd: 1(1.65,24.13) 2(-1.65,21.59) 3(1.65,19.05) 4(-1.65,16.51) 5(1.65,13.97) 6(-1.65,11.43) 7(1.65,8.89) 8(-1.65,6.35) 9(1.65,3.81) 10(-1.65,1.27) 11(1.65,-1.27) 12(-1.65,-3.81) 13(1.65,-6.35) 14(-1.65,-8.89) 15(1.65,-11.43) 16(-1.65,-13.97) 17(1.65,-16.51) 18(-1.65,-19.05) 19(1.65,-21.59) 20(-1.65,-24.13)
F.SilkS:
  lines w0.254: -1.33,-24.89 -1.33,-25.56 1.33,-25.56 1.33,-22.35 ; -1.33,-23.37 -1.33,-19.81 ; -1.33,-18.29 -1.33,-14.73 ; -1.33,-13.21 -1.33,-9.65 ; -1.33,-8.13 -1.33,-4.57 ; -1.33,-3.05 -1.33,0.51 ; -1.33,2.03 -1.33,5.59 ; -1.33,7.11 -1.33,10.67 ; -1.33,12.19 -1.33,15.75 ; -1.33,17.27 -1.33,20.83 ; -1.33,22.35 -1.33,25.56 1.33,25.56 1.33,24.89 2.54,24.89 ; 1.33,-20.83 1.33,-17.27 ; 1.33,-15.75 1.33,-12.19 ; 1.33,-10.67 1.33,-7.11 ; 1.33,-5.59 1.33,-2.03 ; 1.33,-0.51 1.33,3.05 ; 1.33,4.57 1.33,8.13 ; 1.33,9.65 1.33,13.21 ; 1.33,14.73 1.33,18.29 ; 1.33,19.81 1.33,23.37
Top Assembly:
  lines w0.254: -1.27,-24.43 -2.27,-24.43 -2.27,-23.83 -1.27,-23.83 ; -1.27,-19.35 -2.27,-19.35 -2.27,-18.75 -1.27,-18.75 ; -1.27,-14.27 -2.27,-14.27 -2.27,-13.67 -1.27,-13.67 ; -1.27,-9.19 -2.27,-9.19 -2.27,-8.59 -1.27,-8.59 ; -1.27,-4.11 -2.27,-4.11 -2.27,-3.51 -1.27,-3.51 ; -1.27,0.97 -2.27,0.97 -2.27,1.57 -1.27,1.57 ; -1.27,6.05 -2.27,6.05 -2.27,6.65 -1.27,6.65 ; -1.27,11.13 -2.27,11.13 -2.27,11.73 -1.27,11.73 ; -1.27,16.21 -2.27,16.21 -2.27,16.81 -1.27,16.81 ; -1.27,21.29 -2.27,21.29 -2.27,21.89 -1.27,21.89 ; 1.27,-21.89 2.27,-21.89 2.27,-21.29 1.27,-21.29 ; 1.27,-16.81 2.27,-16.81 2.27,-16.21 1.27,-16.21 ; 1.27,-11.73 2.27,-11.73 2.27,-11.13 1.27,-11.13 ; 1.27,-6.65 2.27,-6.65 2.27,-6.05 1.27,-6.05 ; 1.27,-1.57 2.27,-1.57 2.27,-0.97 1.27,-0.97 ; 1.27,3.51 2.27,3.51 2.27,4.11 1.27,4.11 ; 1.27,8.59 2.27,8.59 2.27,9.19 1.27,9.19 ; 1.27,13.67 2.27,13.67 2.27,14.27 1.27,14.27 ; 1.27,18.75 2.27,18.75 2.27,19.35 1.27,19.35 ; 1.27,23.83 2.27,23.83 2.27,24.43 1.27,24.43 ; -1.27,-25.5 1.27,-25.5 1.27,24.865 0.635,25.5 -1.27,25.5 -1.27,-25.5
  text "'.Designator'" at 0.84,-4.047 h1
Top Courtyard:
  lines w0.254: -3.1,-26 3.1,-26 3.1,26 -3.1,26 -3.1,-26
Top Designator:
  text ".Designator" at -7.618,-0.508 h1.52

## PinSocket_1x21_P2.54mm_Horizontal [mm]
pads (21):
  rect 1.7x1.7 hole 1: 1(0,0)
  round 1.7 hole 1: 2(0,-2.54) 3(0,-5.08) 4(0,-7.62) 5(0,-10.16) 6(0,-12.7) 7(0,-15.24) 8(0,-17.78) 9(0,-20.32) 10(0,-22.86) 11(0,-25.4) 12(0,-27.94) 13(0,-30.48) 14(0,-33.02) 15(0,-35.56) 16(0,-38.1) 17(0,-40.64) 18(0,-43.18) 19(0,-45.72) 20(0,-48.26) 21(0,-50.8)
F.SilkS:
  lines w0.254: -10.09,-49.53 -1.46,-49.53 ; -10.09,-46.99 -1.46,-46.99 ; -10.09,-44.45 -1.46,-44.45 ; -10.09,-41.91 -1.46,-41.91 ; -10.09,-39.37 -1.46,-39.37 ; -10.09,-36.83 -1.46,-36.83 ; -10.09,-34.29 -1.46,-34.29 ; -10.09,-31.75 -1.46,-31.75 ; -10.09,-29.21 -1.46,-29.21 ; -10.09,-26.67 -1.46,-26.67 ; -10.09,-24.13 -1.46,-24.13 ; -10.09,-21.59 -1.46,-21.59 ; -10.09,-19.05 -1.46,-19.05 ; -10.09,-16.51 -1.46,-16.51 ; -10.09,-13.97 -1.46,-13.97 ; -10.09,-11.43 -1.46,-11.43 ; -10.09,-8.89 -1.46,-8.89 ; -10.09,-6.35 -1.46,-6.35 ; -10.09,-3.81 -1.46,-3.81 ; -10.09,-1.27 -1.46,-1.27 ; -10.09,-1.152 -1.46,-1.152 ; -10.09,-1.034 -1.46,-1.034 ; -10.09,-0.916 -1.46,-0.916 ; -10.09,-0.798 -1.46,-0.798 ; -10.09,-0.68 -1.46,-0.68 ; -10.09,-0.561 -1.46,-0.561 ; -10.09,-0.443 -1.46,-0.443 ; -10.09,-0.325 -1.46,-0.325 ; -10.09,-0.207 -1.46,-0.207 ; -10.09,-0.089 -1.46,-0.089 ; -10.09,0.029 -1.46,0.029 ; -10.09,0.147 -1.46,0.147 ; -10.09,0.265 -1.46,0.265 ; -10.09,0.383 -1.46,0.383 ; -10.09,0.501 -1.46,0.501 ; -10.09,0.62 -1.46,0.62 ; -10.09,0.738 -1.46,0.738 ; -10.09,0.856 -1.46,0.856 ; -10.09,0.974 -1.46,0.974 ; -10.09,1.092 -1.46,1.092 ; -10.09,1.21 -1.46,1.21 ; -1.46,-51.16 -1.05,-51.16 ; -1.46,-50.44 -1.05,-50.44 ; -1.46,-48.62 -1.05,-48.62 ; -1.46,-47.9 -1.05,-47.9 ; -1.46,-46.08 -1.05,-46.08 ; -1.46,-45.36 -1.05,-45.36 ; -1.46,-43.54 -1.05,-43.54 ; -1.46,-42.82 -1.05,-42.82 ; -1.46,-41 -1.05,-41 ; -1.46,-40.28 -1.05,-40.28 ; -1.46,-38.46 -1.05,-38.46 ; -1.46,-37.74 -1.05,-37.74 ; -1.46,-35.92 -1.05,-35.92 ; -1.46,-35.2 -1.05,-35.2 ; -1.46,-33.38 -1.05,-33.38 ; -1.46,-32.66 -1.05,-32.66 ; -1.46,-30.84 -1.05,-30.84 ; -1.46,-30.12 -1.05,-30.12 ; -1.46,-28.3 -1.05,-28.3 ; -1.46,-27.58 -1.05,-27.58 ; -1.46,-25.76 -1.05,-25.76 ; -1.46,-25.04 -1.05,-25.04 ; -1.46,-23.22 -1.05,-23.22 ; -1.46,-22.5 -1.05,-22.5 ; -1.46,-20.68 -1.05,-20.68 ; -1.46,-19.96 -1.05,-19.96 ; -1.46,-18.14 -1.05,-18.14 ; -1.46,-17.42 -1.05,-17.42 ; -1.46,-15.6 -1.05,-15.6 ; -1.46,-14.88 -1.05,-14.88 ; -1.46,-13.06 -1.05,-13.06 ; -1.46,-12.34 -1.05,-12.34 ; -1.46,-10.52 -1.05,-10.52 ; -1.46,-9.8 -1.05,-9.8 ; -1.46,-7.98 -1.05,-7.98 ; -1.46,-7.26 -1.05,-7.26 ; -1.46,-5.44 -1.05,-5.44 ; -1.46,-4.72 -1.05,-4.72 ; -1.46,-2.9 -1.05,-2.9 ; -1.46,-2.18 -1.05,-2.18 ; -1.46,-0.36 -1.11,-0.36 ; -1.46,0.36 -1.11,0.36 ; 0,1.33 1.11,1.33 1.11,0 ; -10.09,-52.13 -1.46,-52.13 -1.46,1.33 -10.09,1.33 -10.09,-52.13
Top Assembly:
  lines w0.254: -1.52,-51.1 0,-51.1 0,-50.5 -1.52,-50.5 ; -1.52,-48.56 0,-48.56 0,-47.96 -1.52,-47.96 ; -1.52,-46.02 0,-46.02 0,-45.42 -1.52,-45.42 ; -1.52,-43.48 0,-43.48 0,-42.88 -1.52,-42.88 ; -1.52,-40.94 0,-40.94 0,-40.34 -1.52,-40.34 ; -1.52,-38.4 0,-38.4 0,-37.8 -1.52,-37.8 ; -1.52,-35.86 0,-35.86 0,-35.26 -1.52,-35.26 ; -1.52,-33.32 0,-33.32 0,-32.72 -1.52,-32.72 ; -1.52,-30.78 0,-30.78 0,-30.18 -1.52,-30.18 ; -1.52,-28.24 0,-28.24 0,-27.64 -1.52,-27.64 ; -1.52,-25.7 0,-25.7 0,-25.1 -1.52,-25.1 ; -1.52,-23.16 0,-23.16 0,-22.56 -1.52,-22.56 ; -1.52,-20.62 0,-20.62 0,-20.02 -1.52,-20.02 ; -1.52,-18.08 0,-18.08 0,-17.48 -1.52,-17.48 ; -1.52,-15.54 0,-15.54 0,-14.94 -1.52,-14.94 ; -1.52,-13 0,-13 0,-12.4 -1.52,-12.4 ; -1.52,-10.46 0,-10.46 0,-9.86 -1.52,-9.86 ; -1.52,-7.92 0,-7.92 0,-7.32 -1.52,-7.32 ; -1.52,-5.38 0,-5.38 0,-4.78 -1.52,-4.78 ; -1.52,-2.84 0,-2.84 0,-2.24 -1.52,-2.24 ; -1.52,-0.3 0,-0.3 0,0.3 -1.52,0.3 ; -1.52,0.3 -1.52,-52.07 -10.03,-52.07 -10.03,1.27 -2.49,1.27 -1.52,0.3
  text "'.Designator'" at -4.935,-29.447 h1
Top Courtyard:
  lines w0.254: -10.55,-52.55 1.75,-52.55 1.75,1.8 -10.55,1.8 -10.55,-52.55
Top Designator:
  text ".Designator" at -12.018,-25.883 h1.52

## PinSocket_1x21_P2.54mm_Vertical [mm]
pads (21):
  rect 1.7x1.7 hole 1: 1(0,0)
  round 1.7 hole 1: 2(0,-2.54) 3(0,-5.08) 4(0,-7.62) 5(0,-10.16) 6(0,-12.7) 7(0,-15.24) 8(0,-17.78) 9(0,-20.32) 10(0,-22.86) 11(0,-25.4) 12(0,-27.94) 13(0,-30.48) 14(0,-33.02) 15(0,-35.56) 16(0,-38.1) 17(0,-40.64) 18(0,-43.18) 19(0,-45.72) 20(0,-48.26) 21(0,-50.8)
F.SilkS:
  lines w0.254: 0,1.33 1.33,1.33 1.33,0 ; -1.33,-52.13 1.33,-52.13 1.33,-1.27 -1.33,-1.27 -1.33,-52.13
Top Assembly:
  lines w0.254: -1.27,-52.07 1.27,-52.07 1.27,0.635 0.635,1.27 -1.27,1.27 -1.27,-52.07
  text "'.Designator'" at 0.84,-29.447 h1
Top Courtyard:
  lines w0.254: -1.8,-52.55 1.75,-52.55 1.75,1.8 -1.8,1.8 -1.8,-52.55
Top Designator:
  text ".Designator" at -7.643,-25.883 h1.52